# EAGLE library part STA540SA (library Audio-Power-amlifier V.2.0)
4 x 10W DUAL/QUAD POWER AMPLIFIER
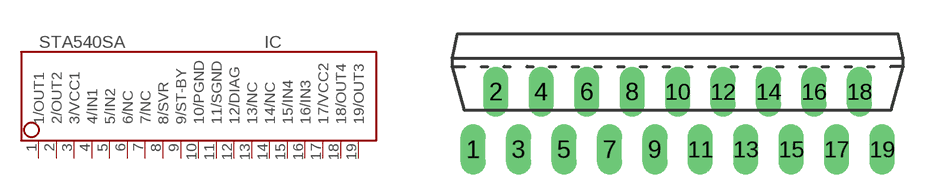
[diagram p188: symbol with the pads of CLIPWATT19; footprint CLIPWATT19]

Designator prefix IC

## STA540SA  [CLIPWATT19]
1  1/OUT1  out
2  2/OUT2  out
3  3/VCC1  pwr
4  4/IN1  in
5  5/IN2  in
6  6/NC  nc
7  7/NC  nc
8  8/SVR  in
9  9/ST-BY  in
10  10/PGND  pwr
11  11/SGND  pwr
12  12/DIAG  out
13  13/NC  nc
14  14/NC  nc
15  15/IN4  in
16  16/IN3  in
17  17/VCC2  pwr
18  18/OUT4  out
19  19/OUT3  out

## Footprint CLIPWATT19 (pad centres in mm)
CLIPWATT 19
drill 0.6 long: 1 -9,-2.54; 2 -8,0; 3 -7,-2.54; 4 -6,0; 5 -5,-2.54; 6 -4,0; 7 -3,-2.54; 8 -2,0; 9 -1,-2.54; 10 0,0; 11 1,-2.54; 12 2,0; 13 3,-2.54; 14 4,0; 15 5,-2.54; 16 6,0; 17 7,-2.54; 18 8,0; 19 9,-2.54